# EAGLE library part WE-LAN_HPLE_1000_BASETX_74902301X (library Wuerth_Elektronik_eiSos_ v6.0)
LAN-Transformer WE-LAN HPLE 1000 Base Tx - Compliant with IEEE 802.3 standards - SMD -- Ethernet -- Power over Ethernet -- 1 Gigabit Ethernet -- Compliant with most IC's for ethernet applications like Intel, AMD, Globespan and Realtek -- Hub, Router, Switch
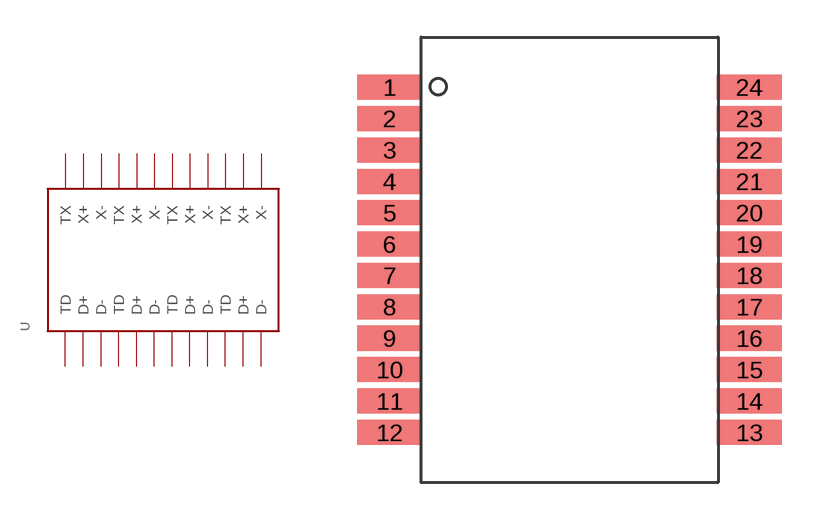
[diagram p31: symbol with the pads of WE-LAN_HPLE_1000_74902301X; footprint WE-LAN_HPLE_1000_74902301X]

Designator prefix -

## WE-LAN_HPLE_1000_BASETX_74902301X_74902301X  [WE-LAN_HPLE_1000_74902301X]
1  TD  pas
2  D+  pas
3  D-  pas
4  TD  pas
5  D+  pas
6  D-  pas
7  TD  pas
8  D+  pas
9  D-  pas
10  TD  pas
11  D+  pas
12  D-  pas
13  X-  pas
14  TX  pas
15  X+  pas
16  X-  pas
17  X+  pas
18  TX  pas
19  X-  pas
20  X+  pas
21  TX  pas
22  X-  pas
23  X+  pas
24  TX  pas

## Footprint WE-LAN_HPLE_1000_74902301X (pad centres in mm)
LAN-Transformer WE-LAN HPLE 1000 Base Tx
smd 2.62 x 1.01: 1 -7.265,6.98; 2 -7.265,5.71; 3 -7.265,4.44; 4 -7.265,3.17; 5 -7.265,1.9; 6 -7.265,0.63; 7 -7.265,-0.63; 8 -7.265,-1.9; 9 -7.265,-3.17; 10 -7.265,-4.44; 11 -7.265,-5.71; 12 -7.265,-6.98; 13 7.265,-6.98; 14 7.265,-5.71; 15 7.265,-4.44; 16 7.265,-3.17; 17 7.265,-1.9; 18 7.265,-0.63; 19 7.265,0.63; 20 7.265,1.9; 21 7.265,3.17; 22 7.265,4.44; 23 7.265,5.71; 24 7.265,6.98